# EAGLE library part KR293KP4A (library Radicon)
OPTORELE 60V 300mA 1mS
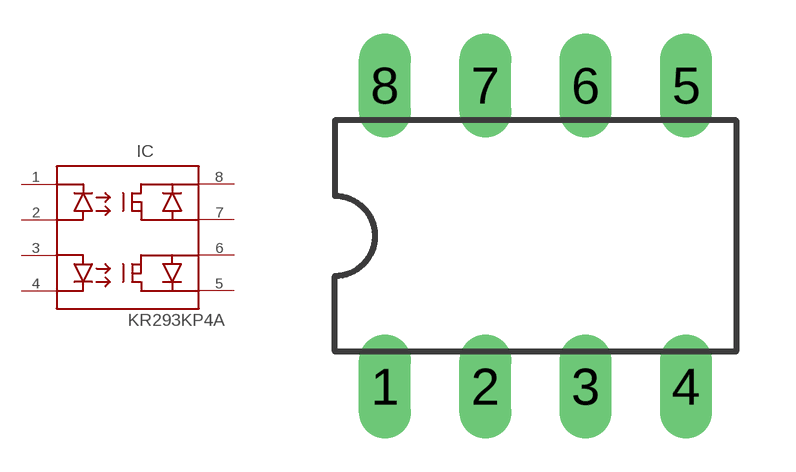
[diagram p5: symbol with the pads of DIL08; footprint DIL08]

Designator prefix IC

## KR293KP4A  [DIL08]
1  K1
2  A1
3  A2
4  K2
5  OUT2B
6  OUT2A
7  OUT1B
8  OUT1A

## Footprint DIL08 (pad centres in mm)
Dual In Line Package
drill 0.813 long: 1 -3.81,-3.81; 2 -1.27,-3.81; 3 1.27,-3.81; 4 3.81,-3.81; 5 3.81,3.81; 6 1.27,3.81; 7 -1.27,3.81; 8 -3.81,3.81